# Altium integrated library SparkFun-DiscreteSemi.IntLib: 101 symbols
Pins are listed as number, name and electrical type; pins without a type are passive.

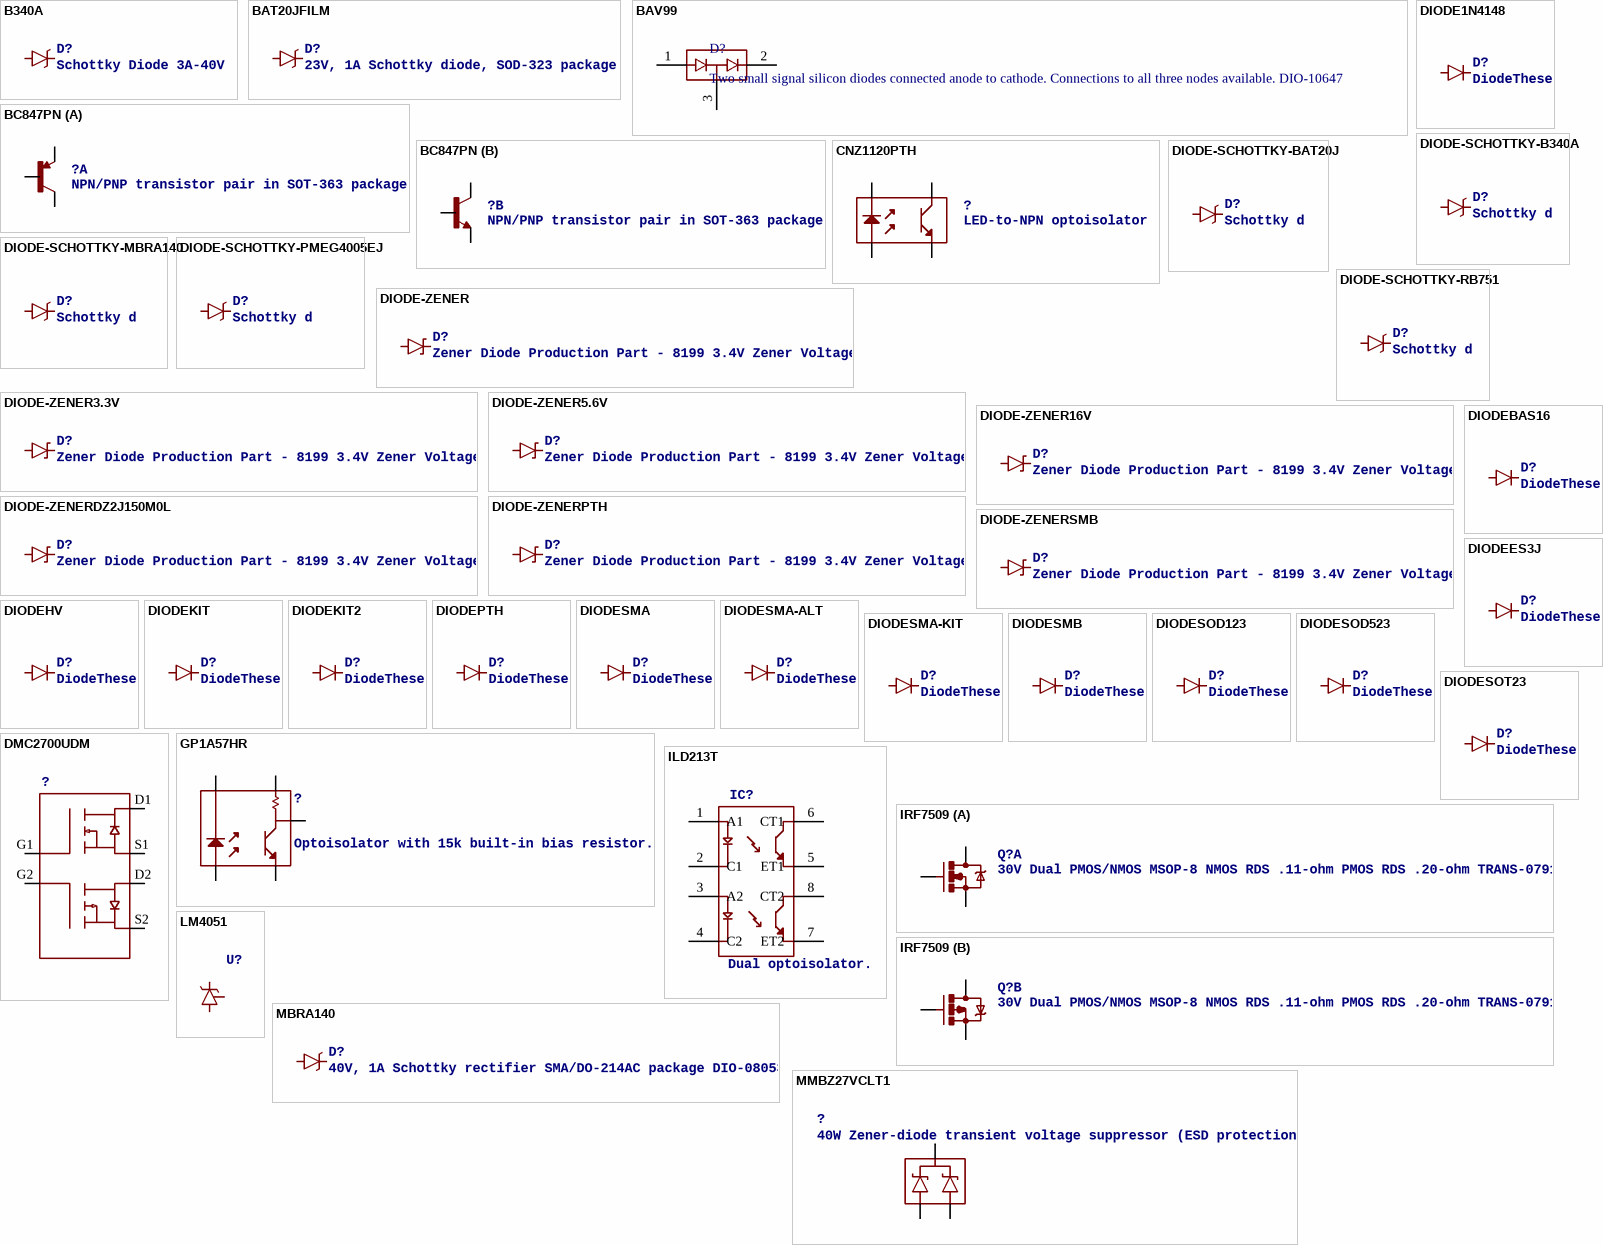
[diagram p0: symbols B340A to MMBZ27VCLT1]

## B340A
designator D?, comment Schottky Diode 3A-40V
PROD_ID: DIO-09886
footprint SMA-DIODE
pins: A, C

## BAT20JFILM
designator D?, comment 23V, 1A Schottky diode, SOD-323 package
PROD_ID: DIO-11623
footprint SOD-323
pins: A, C

## BAV99
designator D?, comment Two small signal silicon diodes connected anode to cathode. Connections to all three nodes available. DIO-10647
PROD_ID: DIO-10647
footprint SOT23-3
pins: 1 A1, 2 C2, 3 COM

## BC847PN
designator ?, comment NPN/PNP transistor pair in SOT-363 package
footprint SOT363
part A pins: 1 E, 2 B, 6 C
part B pins: 3 C, 4 E, 5 B

## CNZ1120PTH
designator ?, comment LED-to-NPN optoisolator
footprint CNZ1120
pins: 1, 2, 3, 4

## DIODE1N4148
designator D?, comment DiodeThese are standard reverse protection diodes and small signal diodes. SMA package can handle up to about 1A. SOD-323 can handle about 200mA. What the SOD-323 package when ordering, there are some mfgs out there that are 5-pin packages.
PROD_ID: DIO-08378
footprint DIODE-1N4148
pins: A, C

## DIODE-SCHOTTKY-B340A
designator D?, comment Schottky diodes in SFE's production catalog   BAT20J 1A 23V 0.62Vf RB751 120mA 40V 0.37Vf PMEG4005EJ 0.5A 40V 0.42Vf MBRA140 1A 40V 0.5Vf B340A  3A 40V SMA
PROD_ID: DIO-09886
footprint SMA-DIODE
pins: A, C

## DIODE-SCHOTTKY-BAT20J
designator D?, comment Schottky diodes in SFE's production catalog   BAT20J 1A 23V 0.62Vf RB751 120mA 40V 0.37Vf PMEG4005EJ 0.5A 40V 0.42Vf MBRA140 1A 40V 0.5Vf B340A  3A 40V SMA
PROD_ID: DIO-11623
footprint SOD-323
pins: A, C

## DIODE-SCHOTTKY-MBRA140
designator D?, comment Schottky diodes in SFE's production catalog   BAT20J 1A 23V 0.62Vf RB751 120mA 40V 0.37Vf PMEG4005EJ 0.5A 40V 0.42Vf MBRA140 1A 40V 0.5Vf B340A  3A 40V SMA
PROD_ID: DIO-08053
footprint SMA-DIODE
pins: A, C

## DIODE-SCHOTTKY-PMEG4005EJ
designator D?, comment Schottky diodes in SFE's production catalog   BAT20J 1A 23V 0.62Vf RB751 120mA 40V 0.37Vf PMEG4005EJ 0.5A 40V 0.42Vf MBRA140 1A 40V 0.5Vf B340A  3A 40V SMA
PROD_ID: DIO-10955
footprint SOD-323
pins: A, C

## DIODE-SCHOTTKY-RB751
designator D?, comment Schottky diodes in SFE's production catalog   BAT20J 1A 23V 0.62Vf RB751 120mA 40V 0.37Vf PMEG4005EJ 0.5A 40V 0.42Vf MBRA140 1A 40V 0.5Vf B340A  3A 40V SMA
PROD_ID: DIO-11018
footprint SOD-523
pins: A, C

## DIODE-ZENER
designator D?, comment Zener Diode Production Part - 8199 3.4V Zener Voltage
PROD-ID: DIO-08199
footprint DIODE-BZT52
pins: A, C

## DIODE-ZENER3.3V
designator D?, comment Zener Diode Production Part - 8199 3.4V Zener Voltage
PROD_ID: DIO-11284
footprint SOD-323
pins: A, C

## DIODE-ZENER5.6V
designator D?, comment Zener Diode Production Part - 8199 3.4V Zener Voltage
PROD_ID: DIO-12442
footprint SOD-323
pins: A, C

## DIODE-ZENER16V
designator D?, comment Zener Diode Production Part - 8199 3.4V Zener Voltage
PROD_ID: DIO-12440
footprint SOD-123
pins: A, C

## DIODE-ZENERDZ2J150M0L
designator D?, comment Zener Diode Production Part - 8199 3.4V Zener Voltage
PROD_ID: DIO-12989
footprint PANASONIC_SMINI2-F5-B
pins: A, C

## DIODE-ZENERPTH
designator D?, comment Zener Diode Production Part - 8199 3.4V Zener Voltage
footprint DIODE-ZENER
pins: P$1 C, P$2 A

## DIODE-ZENERSMB
designator D?, comment Zener Diode Production Part - 8199 3.4V Zener Voltage
footprint SMB-DIODE
pins: A, C

## DIODEBAS16
designator D?, comment DiodeThese are standard reverse protection diodes and small signal diodes. SMA package can handle up to about 1A. SOD-323 can handle about 200mA. What the SOD-323 package when ordering, there are some mfgs out there that are 5-pin packages.
PROD_ID: DIO-09646
footprint SOD-323
pins: A, C

## DIODEES3J
designator D?, comment DiodeThese are standard reverse protection diodes and small signal diodes. SMA package can handle up to about 1A. SOD-323 can handle about 200mA. What the SOD-323 package when ordering, there are some mfgs out there that are 5-pin packages.
PROD_ID: DIO-12441
footprint SMC
pins: A, C

## DIODEHV
designator D?, comment DiodeThese are standard reverse protection diodes and small signal diodes. SMA package can handle up to about 1A. SOD-323 can handle about 200mA. What the SOD-323 package when ordering, there are some mfgs out there that are 5-pin packages.
footprint DIODE-HV
pins: A, C

## DIODEKIT
designator D?, comment DiodeThese are standard reverse protection diodes and small signal diodes. SMA package can handle up to about 1A. SOD-323 can handle about 200mA. What the SOD-323 package when ordering, there are some mfgs out there that are 5-pin packages.
footprint DIODE-1N4148-KIT
pins: A, C

## DIODEKIT2
designator D?, comment DiodeThese are standard reverse protection diodes and small signal diodes. SMA package can handle up to about 1A. SOD-323 can handle about 200mA. What the SOD-323 package when ordering, there are some mfgs out there that are 5-pin packages.
footprint DIODE-1N4001-KIT
pins: A, C

## DIODEPTH
designator D?, comment DiodeThese are standard reverse protection diodes and small signal diodes. SMA package can handle up to about 1A. SOD-323 can handle about 200mA. What the SOD-323 package when ordering, there are some mfgs out there that are 5-pin packages.
footprint DIODE-1N4001
pins: A, C

## DIODESMA
designator D?, comment DiodeThese are standard reverse protection diodes and small signal diodes. SMA package can handle up to about 1A. SOD-323 can handle about 200mA. What the SOD-323 package when ordering, there are some mfgs out there that are 5-pin packages.
footprint SMA-DIODE
pins: A, C

## DIODESMA-ALT
designator D?, comment DiodeThese are standard reverse protection diodes and small signal diodes. SMA package can handle up to about 1A. SOD-323 can handle about 200mA. What the SOD-323 package when ordering, there are some mfgs out there that are 5-pin packages.
footprint SMA-DIODE_ALT
pins: A, C

## DIODESMA-KIT
designator D?, comment DiodeThese are standard reverse protection diodes and small signal diodes. SMA package can handle up to about 1A. SOD-323 can handle about 200mA. What the SOD-323 package when ordering, there are some mfgs out there that are 5-pin packages.
footprint SMA-DIODE-KIT
pins: A, C

## DIODESMB
designator D?, comment DiodeThese are standard reverse protection diodes and small signal diodes. SMA package can handle up to about 1A. SOD-323 can handle about 200mA. What the SOD-323 package when ordering, there are some mfgs out there that are 5-pin packages.
PROD_ID: DIO-09646
footprint SMB-DIODE
pins: A, C

## DIODESOD123
designator D?, comment DiodeThese are standard reverse protection diodes and small signal diodes. SMA package can handle up to about 1A. SOD-323 can handle about 200mA. What the SOD-323 package when ordering, there are some mfgs out there that are 5-pin packages.
footprint SOD-123
pins: A, C

## DIODESOD523
designator D?, comment DiodeThese are standard reverse protection diodes and small signal diodes. SMA package can handle up to about 1A. SOD-323 can handle about 200mA. What the SOD-323 package when ordering, there are some mfgs out there that are 5-pin packages.
footprint SOD523
pins: A, C

## DIODESOT23
designator D?, comment DiodeThese are standard reverse protection diodes and small signal diodes. SMA package can handle up to about 1A. SOD-323 can handle about 200mA. What the SOD-323 package when ordering, there are some mfgs out there that are 5-pin packages.
footprint SOT23-3
pins: 1 A, 3 C

## DMC2700UDM
designator ?
PROD_ID: TRANS-11993
footprint SOT26
pins: D1, D2, G1, G2, S1, S2

## GP1A57HR
designator ?, comment Optoisolator with 15k built-in bias resistor.
footprint GP1A57HR
pins: 1, 2, 3, 4, 5

## ILD213T
designator IC?, comment Dual optoisolator.
footprint SO08
pins: 1 A1, 2 C1, 3 A2, 4 C2, 5 ET1, 6 CT1, 7 ET2, 8 CT2

## IRF7509
designator Q?, comment 30V Dual PMOS/NMOS MSOP-8 NMOS RDS .11-ohm PMOS RDS .20-ohm TRANS-07913
PROD_ID: TRANS-07913
footprint MSOP8
part A pins: 1 S, 2 G, 7 8 D
part B pins: 3 S, 4 G, 5 6 D

## LM4051
designator U?
PROD_ID: IC-13134
footprint SOT23-3
pins: 1 ADJ, 2 C, 3 A

## MBRA140
designator D?, comment 40V, 1A Schottky rectifier SMA/DO-214AC package DIO-08053
PROD_ID: DIO-08053
footprint SMA-DIODE
pins: A, C

## MMBZ27VCLT1
designator ?, comment 40W Zener-diode transient voltage suppressor (ESD protection)
footprint SOT23-3
pins: 1 A1, 2 A2, 3 C

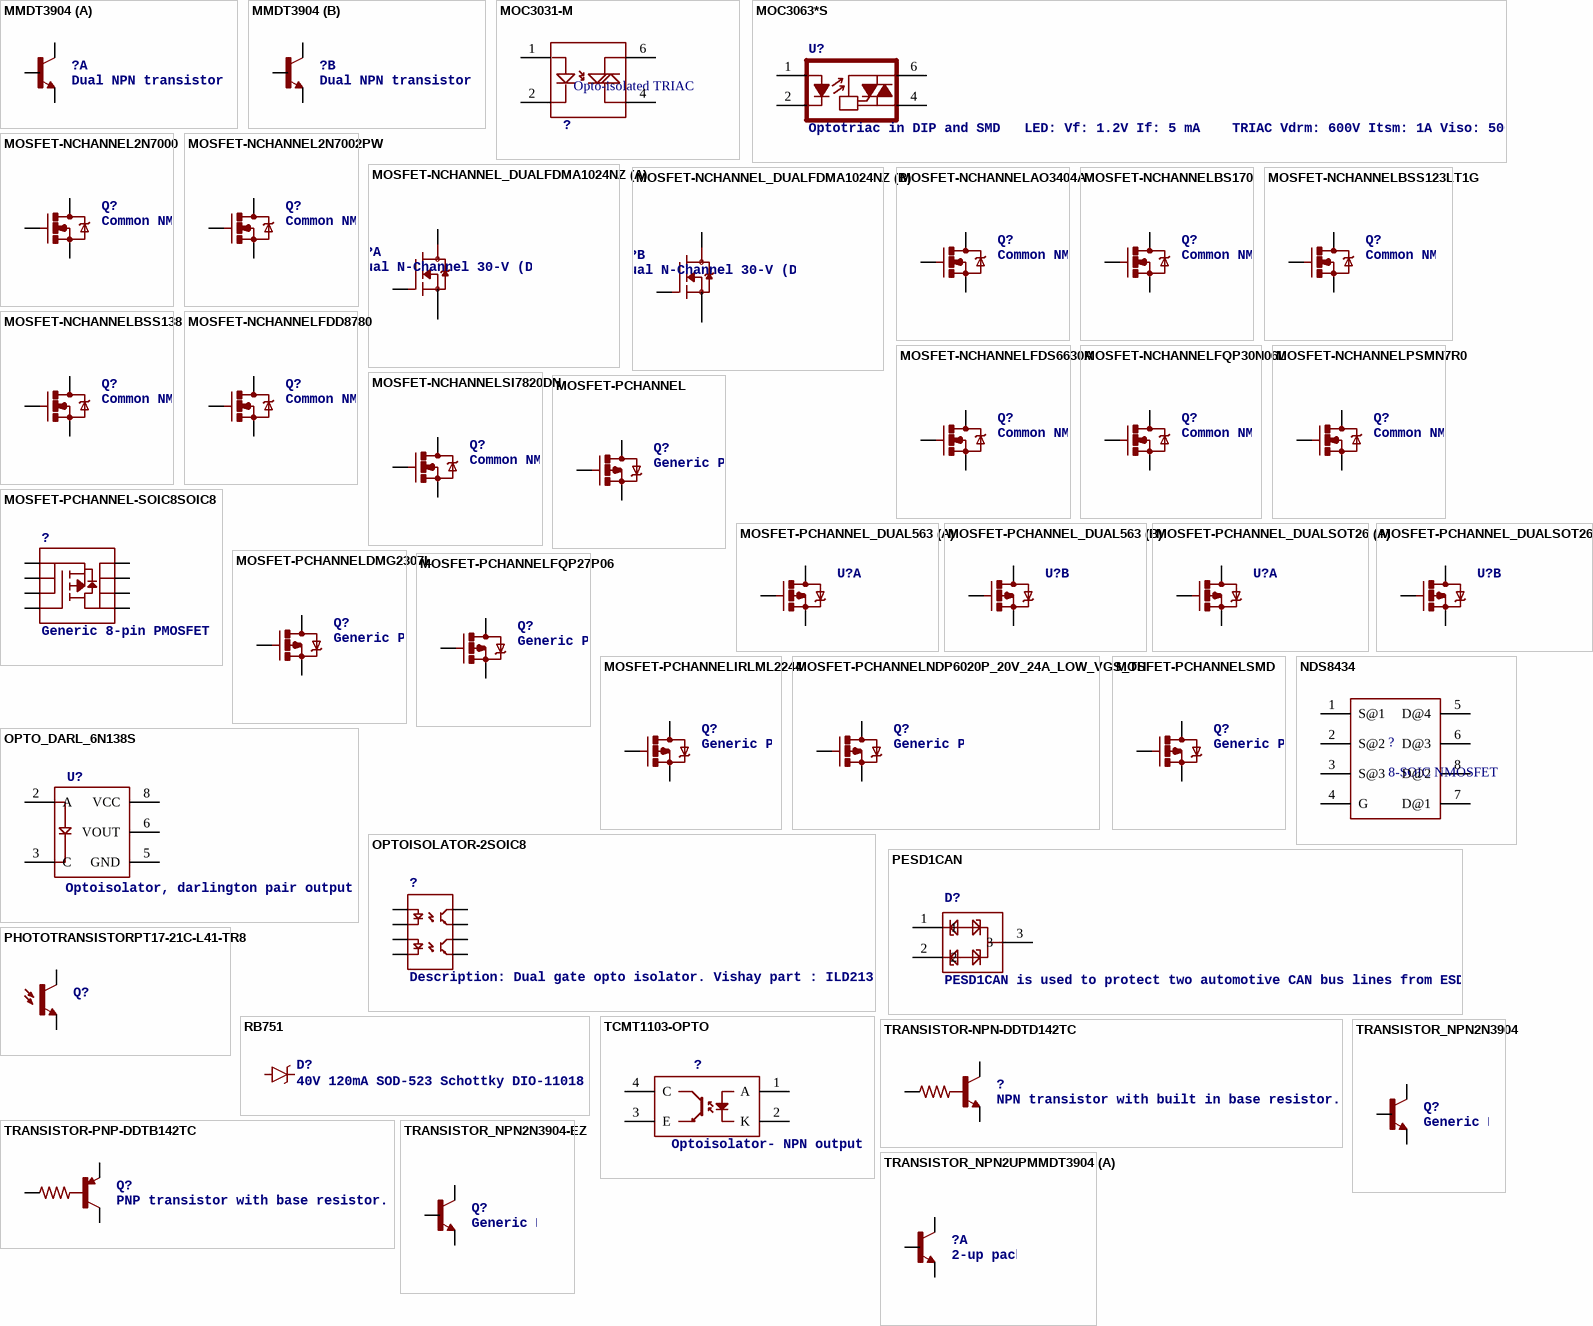
[diagram p1: symbols MMDT3904 to TRANSISTOR_NPN2UPMMDT3904]

## MMDT3904
designator ?, comment Dual NPN transistor
footprint SOT363
part A pins: 3 C, 4 E, 5 B
part B pins: 1 E, 2 B, 6 C

## MOC3031-M
designator ?, comment Opto-isolated TRIAC
footprint DIL06
pins: 1, 2, 4, 6

## MOC3063*S
designator U?, comment Optotriac in DIP and SMD   LED: Vf: 1.2V If: 5 mA    TRIAC Vdrm: 600V Itsm: 1A Viso: 5000V DV/dt: 1500V/us    DIP: MOC3063 SMD: MOC3063S
PROD_ID: IC-10683
footprint DIP8SMD
pins: 1 A, 2 K, 4 T2, 6 T1

## MOSFET-NCHANNEL2N7000
designator Q?, comment Common NMOSFET Parts      MFG P/NStore IDProd ID   FDD8780		TRANS-09984	   SI7820DN		TRANS-11055	   FDS6630A		IC-08089	   2N7002PW		TRANS-11151	   FQP30N06L	  COM-10213	TRANS-10060	   BSS123LT1G		TRANS-08345	   BSS138		TRANS-00830	   BS170			   2N7000
footprint TO-92
pins: 1 S, 2 G, 3 D

## MOSFET-NCHANNEL2N7002PW
designator Q?, comment Common NMOSFET Parts      MFG P/NStore IDProd ID   FDD8780		TRANS-09984	   SI7820DN		TRANS-11055	   FDS6630A		IC-08089	   2N7002PW		TRANS-11151	   FQP30N06L	  COM-10213	TRANS-10060	   BSS123LT1G		TRANS-08345	   BSS138		TRANS-00830	   BS170			   2N7000
PROD_ID: TRANS-11151
footprint SOT323
pins: 1 G, 2 S, 3 D

## MOSFET-NCHANNEL_DUALFDMA1024NZ
designator Q?, comment Dual N-Channel 30-V (D-S) MOSFET FDMA1024NZ TRANS-09516 http://www.vishay.com/docs/71053/71053.pdf
PROD_ID: TRANS-09516
footprint MICROFET_2X2
part A pins: D1 D, D1_2 D1, G1 G, S1 S
part B pins: D2 D, D2_2 D1, G2 G, S2 S

## MOSFET-NCHANNELAO3404A
designator Q?, comment Common NMOSFET Parts      MFG P/NStore IDProd ID   FDD8780		TRANS-09984	   SI7820DN		TRANS-11055	   FDS6630A		IC-08089	   2N7002PW		TRANS-11151	   FQP30N06L	  COM-10213	TRANS-10060	   BSS123LT1G		TRANS-08345	   BSS138		TRANS-00830	   BS170			   2N7000
PROD_ID: TRAN-12988
footprint SOT23-3
pins: 1 G, 2 S, 3 D

## MOSFET-NCHANNELBS170
designator Q?, comment Common NMOSFET Parts      MFG P/NStore IDProd ID   FDD8780		TRANS-09984	   SI7820DN		TRANS-11055	   FDS6630A		IC-08089	   2N7002PW		TRANS-11151	   FQP30N06L	  COM-10213	TRANS-10060	   BSS123LT1G		TRANS-08345	   BSS138		TRANS-00830	   BS170			   2N7000
footprint TO-92
pins: 1 D, 2 G, 3 S

## MOSFET-NCHANNELBSS123LT1G
designator Q?, comment Common NMOSFET Parts      MFG P/NStore IDProd ID   FDD8780		TRANS-09984	   SI7820DN		TRANS-11055	   FDS6630A		IC-08089	   2N7002PW		TRANS-11151	   FQP30N06L	  COM-10213	TRANS-10060	   BSS123LT1G		TRANS-08345	   BSS138		TRANS-00830	   BS170			   2N7000
PROD_ID: TRANS-08345
footprint SOT23-3
pins: 1 G, 2 S, 3 D

## MOSFET-NCHANNELBSS138
designator Q?, comment Common NMOSFET Parts      MFG P/NStore IDProd ID   FDD8780		TRANS-09984	   SI7820DN		TRANS-11055	   FDS6630A		IC-08089	   2N7002PW		TRANS-11151	   FQP30N06L	  COM-10213	TRANS-10060	   BSS123LT1G		TRANS-08345	   BSS138		TRANS-00830	   BS170			   2N7000
PROD_ID: TRANS-00830
footprint SOT23-3
pins: 1 G, 2 S, 3 D

## MOSFET-NCHANNELFDD8780
designator Q?, comment Common NMOSFET Parts      MFG P/NStore IDProd ID   FDD8780		TRANS-09984	   SI7820DN		TRANS-11055	   FDS6630A		IC-08089	   2N7002PW		TRANS-11151	   FQP30N06L	  COM-10213	TRANS-10060	   BSS123LT1G		TRANS-08345	   BSS138		TRANS-00830	   BS170			   2N7000
PROD_ID: TRANS-09984
footprint DPAK
pins: 1 G, 3 S, 4 D

## MOSFET-NCHANNELFDS6630A
designator Q?, comment Common NMOSFET Parts      MFG P/NStore IDProd ID   FDD8780		TRANS-09984	   SI7820DN		TRANS-11055	   FDS6630A		IC-08089	   2N7002PW		TRANS-11151	   FQP30N06L	  COM-10213	TRANS-10060	   BSS123LT1G		TRANS-08345	   BSS138		TRANS-00830	   BS170			   2N7000
PROD_ID: IC-08089
footprint SO08
pins: 1 2 3 S, 4 G, 5 6 7 8 D

## MOSFET-NCHANNELFQP30N06L
designator Q?, comment Common NMOSFET Parts      MFG P/NStore IDProd ID   FDD8780		TRANS-09984	   SI7820DN		TRANS-11055	   FDS6630A		IC-08089	   2N7002PW		TRANS-11151	   FQP30N06L	  COM-10213	TRANS-10060	   BSS123LT1G		TRANS-08345	   BSS138		TRANS-00830	   BS170			   2N7000
PROD_ID: TRANS-10060
footprint TO220V
pins: 1 G, 2 D, 3 S

## MOSFET-NCHANNELPSMN7R0
designator Q?, comment Common NMOSFET Parts      MFG P/NStore IDProd ID   FDD8780		TRANS-09984	   SI7820DN		TRANS-11055	   FDS6630A		IC-08089	   2N7002PW		TRANS-11151	   FQP30N06L	  COM-10213	TRANS-10060	   BSS123LT1G		TRANS-08345	   BSS138		TRANS-00830	   BS170			   2N7000
PROD_ID: TRANS-12437
footprint TO-263/D2PAK
pins: 1 G, 2 D, 3 S

## MOSFET-NCHANNELSI7820DN
designator Q?, comment Common NMOSFET Parts      MFG P/NStore IDProd ID   FDD8780		TRANS-09984	   SI7820DN		TRANS-11055	   FDS6630A		IC-08089	   2N7002PW		TRANS-11151	   FQP30N06L	  COM-10213	TRANS-10060	   BSS123LT1G		TRANS-08345	   BSS138		TRANS-00830	   BS170			   2N7000
PROD_ID: TRANS-11055
footprint POWERPAK1212-8
pins: D1 D2 D3 D4 DPAD D, G, S1 S2 S3 S

## MOSFET-PCHANNEL
designator Q?, comment Generic PMOSFET    IRLML2244 - TRANS-11153 (SOT-23 -20V -4.3A) (1.Gate 2.Source 3.Drain)     FQP27P06 - COM-10349(TO-220 -60V -27A) (1.Gate 2.Source 3.Drain)
PROD_ID: TRANS-08285
footprint SOT23-3
pins: 1 G, 2 S, 3 D

## MOSFET-PCHANNEL-SOIC8SOIC8
designator ?, comment Generic 8-pin PMOSFET
footprint SO08
pins: 1 S@1, 2 S@2, 3 S@3, 4 G, 5 D@1, 6 D@2, 7 D@3, 8 D@4

## MOSFET-PCHANNEL_DUAL563
designator U?
footprint SOT563
part A pins: D1 D, G1 G, S1 S
part B pins: D2 D, G2 G, S2 S

## MOSFET-PCHANNEL_DUALSOT26
designator U?
PROD_ID: TRAN-12444
footprint SOT26
part A pins: D1 D, G1 G, S1 S
part B pins: D2 D, G2 G, S2 S

## MOSFET-PCHANNELDMG2307L
designator Q?, comment Generic PMOSFET    IRLML2244 - TRANS-11153 (SOT-23 -20V -4.3A) (1.Gate 2.Source 3.Drain)     FQP27P06 - COM-10349(TO-220 -60V -27A) (1.Gate 2.Source 3.Drain)
PROD_ID: TRANS-11308
footprint SOT23-3
pins: 1 G, 2 S, 3 D

## MOSFET-PCHANNELFQP27P06
designator Q?, comment Generic PMOSFET    IRLML2244 - TRANS-11153 (SOT-23 -20V -4.3A) (1.Gate 2.Source 3.Drain)     FQP27P06 - COM-10349(TO-220 -60V -27A) (1.Gate 2.Source 3.Drain)
footprint TO220V
pins: 1 G, 2 D, 3 S

## MOSFET-PCHANNELIRLML2244
designator Q?, comment Generic PMOSFET    IRLML2244 - TRANS-11153 (SOT-23 -20V -4.3A) (1.Gate 2.Source 3.Drain)     FQP27P06 - COM-10349(TO-220 -60V -27A) (1.Gate 2.Source 3.Drain)
PROD_ID: TRANS-11153
footprint SOT23-3
pins: 1 G, 2 S, 3 D

## MOSFET-PCHANNELNDP6020P_20V_24A_LOW_VGS_TH
designator Q?, comment Generic PMOSFET    IRLML2244 - TRANS-11153 (SOT-23 -20V -4.3A) (1.Gate 2.Source 3.Drain)     FQP27P06 - COM-10349(TO-220 -60V -27A) (1.Gate 2.Source 3.Drain)
PROD_ID: TRANS-13060
footprint TO220V
pins: 1 G, 2 D, 3 S

## MOSFET-PCHANNELSMD
designator Q?, comment Generic PMOSFET    IRLML2244 - TRANS-11153 (SOT-23 -20V -4.3A) (1.Gate 2.Source 3.Drain)     FQP27P06 - COM-10349(TO-220 -60V -27A) (1.Gate 2.Source 3.Drain)
footprint SOT23-3
pins: 1 G, 2 S, 3 D

## NDS8434
designator ?, comment 8-SOIC NMOSFET
footprint SO08
pins: 1 S@1, 2 S@2, 3 S@3, 4 G, 5 D@4, 6 D@3, 7 D@1, 8 D@2

## OPTO_DARL_6N138S
designator U?, comment Optoisolator, darlington pair output
PROD_ID: IC-09482
footprint 8-SMD
pins: 2 A, 3 C, 5 GND, 6 VOUT, 8 VCC

## OPTOISOLATOR-2SOIC8
designator ?, comment Description: Dual gate opto isolator. Vishay part : ILD213T
PROD_ID: IC-09076
footprint SO08-2
pins: 1 A1, 2 C1, 3 A2, 4 C2, 5 EM2, 6 CL2, 7 EM1, 8 CL1

## PESD1CAN
designator D?, comment PESD1CAN is used to protect two automotive CAN bus lines from ESD.
PROD_ID: DIO-12501
footprint SOT23-3
pins: 1, 2, 3

## PHOTOTRANSISTORPT17-21C-L41-TR8
designator Q?
PROD_ID: TRANS-12141
footprint PT17-21C-L41-TR8
pins: C, E

## RB751
designator D?, comment 40V 120mA SOD-523 Schottky DIO-11018
PROD_ID: DIO-11018
footprint SOD-523
pins: A, C

## TCMT1103-OPTO
designator ?, comment Optoisolator- NPN output
footprint SSOP-4
pins: 1 A, 2 K, 3 E, 4 C

## TRANSISTOR-NPN-DDTD142TC
designator ?, comment NPN transistor with built in base resistor.
PROD_ID: TRANS-11480
footprint SOT23-3
pins: 1 B, 2 E, 3 C

## TRANSISTOR-PNP-DDTB142TC
designator Q?, comment PNP transistor with base resistor.
PROD_ID: TRANS-11479
footprint SOT23-3
pins: 1 B, 2 E, 3 C

## TRANSISTOR_NPN2N3904
designator Q?, comment Generic NPN BJT   MMBT2222A - TRANS-08049 (SOT-23, 1A 40V) MPSA42 - TRANS-09116 (SOT-23, 500mA 300V) MMBT5088LT1G - TRANS-11160 (SOT-23, 50 mA 30V)          BC547 -     COM-08928    (TO-92 45V 100mA) (1.Collector 2.Base 3.Emitter)             2N3904 -     COM-00521    (TO-92 40V 200mA) (1.Emitter 2.Base 3.Collector)             P2N2222A -     COM-12852    (TO-92 40V 600mA) (1.Collector 2.Base 3.Emitter)
PROD_ID: TRANS-08447
footprint TO-92
pins: 1 E, 2 B, 3 C

## TRANSISTOR_NPN2N3904-EZ
designator Q?, comment Generic NPN BJT   MMBT2222A - TRANS-08049 (SOT-23, 1A 40V) MPSA42 - TRANS-09116 (SOT-23, 500mA 300V) MMBT5088LT1G - TRANS-11160 (SOT-23, 50 mA 30V)          BC547 -     COM-08928    (TO-92 45V 100mA) (1.Collector 2.Base 3.Emitter)             2N3904 -     COM-00521    (TO-92 40V 200mA) (1.Emitter 2.Base 3.Collector)             P2N2222A -     COM-12852    (TO-92 40V 600mA) (1.Collector 2.Base 3.Emitter)
PROD_ID: TRANS-08447
footprint TO-92-EZ
pins: 1 E, 2 B, 3 C

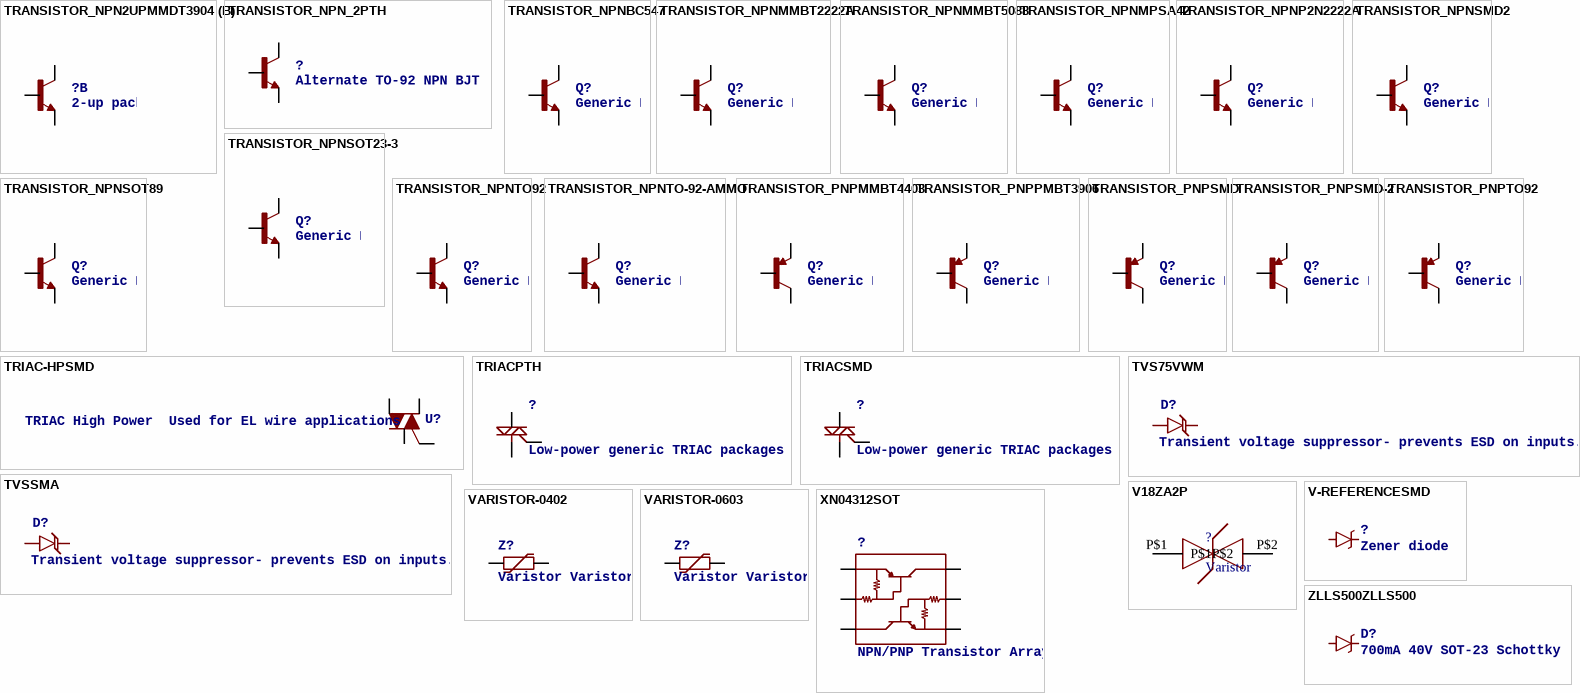
[diagram p2: symbols TRANSISTOR_NPN2UPMMDT3904 to ZLLS500ZLLS500]

## TRANSISTOR_NPN2UPMMDT3904
designator ?, comment 2-up package of NPN transistors    MMDT3904- TRANS-09373 (SOT-363, 200mA 40V)
PROD_ID: TRANS-09373
footprint SOT363
part A pins: 1 E, 2 B, 6 C
part B pins: 3 C, 4 E, 5 B

## TRANSISTOR_NPN_2PTH
designator ?, comment Alternate TO-92 NPN BJT
footprint TO-92
pins: 1 C, 2 B, 3 E

## TRANSISTOR_NPNBC547
designator Q?, comment Generic NPN BJT   MMBT2222A - TRANS-08049 (SOT-23, 1A 40V) MPSA42 - TRANS-09116 (SOT-23, 500mA 300V) MMBT5088LT1G - TRANS-11160 (SOT-23, 50 mA 30V)          BC547 -     COM-08928    (TO-92 45V 100mA) (1.Collector 2.Base 3.Emitter)             2N3904 -     COM-00521    (TO-92 40V 200mA) (1.Emitter 2.Base 3.Collector)             P2N2222A -     COM-12852    (TO-92 40V 600mA) (1.Collector 2.Base 3.Emitter)
footprint TO-92-AMMO
pins: 1 C, 2 B, 3 E

## TRANSISTOR_NPNMMBT2222A
designator Q?, comment Generic NPN BJT   MMBT2222A - TRANS-08049 (SOT-23, 1A 40V) MPSA42 - TRANS-09116 (SOT-23, 500mA 300V) MMBT5088LT1G - TRANS-11160 (SOT-23, 50 mA 30V)          BC547 -     COM-08928    (TO-92 45V 100mA) (1.Collector 2.Base 3.Emitter)             2N3904 -     COM-00521    (TO-92 40V 200mA) (1.Emitter 2.Base 3.Collector)             P2N2222A -     COM-12852    (TO-92 40V 600mA) (1.Collector 2.Base 3.Emitter)
PROD_ID: TRANS-08049
footprint SOT23-3
pins: 1 B, 2 E, 3 C

## TRANSISTOR_NPNMMBT5088
designator Q?, comment Generic NPN BJT   MMBT2222A - TRANS-08049 (SOT-23, 1A 40V) MPSA42 - TRANS-09116 (SOT-23, 500mA 300V) MMBT5088LT1G - TRANS-11160 (SOT-23, 50 mA 30V)          BC547 -     COM-08928    (TO-92 45V 100mA) (1.Collector 2.Base 3.Emitter)             2N3904 -     COM-00521    (TO-92 40V 200mA) (1.Emitter 2.Base 3.Collector)             P2N2222A -     COM-12852    (TO-92 40V 600mA) (1.Collector 2.Base 3.Emitter)
PROD_ID: TRANS-11160
footprint SOT23-3
pins: 1 B, 2 E, 3 C

## TRANSISTOR_NPNMPSA42
designator Q?, comment Generic NPN BJT   MMBT2222A - TRANS-08049 (SOT-23, 1A 40V) MPSA42 - TRANS-09116 (SOT-23, 500mA 300V) MMBT5088LT1G - TRANS-11160 (SOT-23, 50 mA 30V)          BC547 -     COM-08928    (TO-92 45V 100mA) (1.Collector 2.Base 3.Emitter)             2N3904 -     COM-00521    (TO-92 40V 200mA) (1.Emitter 2.Base 3.Collector)             P2N2222A -     COM-12852    (TO-92 40V 600mA) (1.Collector 2.Base 3.Emitter)
PROD_ID: TRANS-09116
footprint SOT23-3
pins: 1 B, 2 E, 3 C

## TRANSISTOR_NPNP2N2222A
designator Q?, comment Generic NPN BJT   MMBT2222A - TRANS-08049 (SOT-23, 1A 40V) MPSA42 - TRANS-09116 (SOT-23, 500mA 300V) MMBT5088LT1G - TRANS-11160 (SOT-23, 50 mA 30V)          BC547 -     COM-08928    (TO-92 45V 100mA) (1.Collector 2.Base 3.Emitter)             2N3904 -     COM-00521    (TO-92 40V 200mA) (1.Emitter 2.Base 3.Collector)             P2N2222A -     COM-12852    (TO-92 40V 600mA) (1.Collector 2.Base 3.Emitter)
PROD_ID: TRANS-09536
footprint TO-92
pins: 1 C, 2 B, 3 E

## TRANSISTOR_NPNSMD2
designator Q?, comment Generic NPN BJT   MMBT2222A - TRANS-08049 (SOT-23, 1A 40V) MPSA42 - TRANS-09116 (SOT-23, 500mA 300V) MMBT5088LT1G - TRANS-11160 (SOT-23, 50 mA 30V)          BC547 -     COM-08928    (TO-92 45V 100mA) (1.Collector 2.Base 3.Emitter)             2N3904 -     COM-00521    (TO-92 40V 200mA) (1.Emitter 2.Base 3.Collector)             P2N2222A -     COM-12852    (TO-92 40V 600mA) (1.Collector 2.Base 3.Emitter)
footprint SOT223
pins: 1 B, 2 C, 3 E

## TRANSISTOR_NPNSOT23-3
designator Q?, comment Generic NPN BJT   MMBT2222A - TRANS-08049 (SOT-23, 1A 40V) MPSA42 - TRANS-09116 (SOT-23, 500mA 300V) MMBT5088LT1G - TRANS-11160 (SOT-23, 50 mA 30V)          BC547 -     COM-08928    (TO-92 45V 100mA) (1.Collector 2.Base 3.Emitter)             2N3904 -     COM-00521    (TO-92 40V 200mA) (1.Emitter 2.Base 3.Collector)             P2N2222A -     COM-12852    (TO-92 40V 600mA) (1.Collector 2.Base 3.Emitter)
PROD_ID: TRANS-08049
footprint SOT23-3
pins: 1 B, 2 E, 3 C

## TRANSISTOR_NPNSOT89
designator Q?, comment Generic NPN BJT   MMBT2222A - TRANS-08049 (SOT-23, 1A 40V) MPSA42 - TRANS-09116 (SOT-23, 500mA 300V) MMBT5088LT1G - TRANS-11160 (SOT-23, 50 mA 30V)          BC547 -     COM-08928    (TO-92 45V 100mA) (1.Collector 2.Base 3.Emitter)             2N3904 -     COM-00521    (TO-92 40V 200mA) (1.Emitter 2.Base 3.Collector)             P2N2222A -     COM-12852    (TO-92 40V 600mA) (1.Collector 2.Base 3.Emitter)
footprint SOT89
pins: 1 B, 2 C, 3 E

## TRANSISTOR_NPNTO92
designator Q?, comment Generic NPN BJT   MMBT2222A - TRANS-08049 (SOT-23, 1A 40V) MPSA42 - TRANS-09116 (SOT-23, 500mA 300V) MMBT5088LT1G - TRANS-11160 (SOT-23, 50 mA 30V)          BC547 -     COM-08928    (TO-92 45V 100mA) (1.Collector 2.Base 3.Emitter)             2N3904 -     COM-00521    (TO-92 40V 200mA) (1.Emitter 2.Base 3.Collector)             P2N2222A -     COM-12852    (TO-92 40V 600mA) (1.Collector 2.Base 3.Emitter)
footprint TO-92
pins: 1 E, 2 B, 3 C

## TRANSISTOR_NPNTO-92-AMMO
designator Q?, comment Generic NPN BJT   MMBT2222A - TRANS-08049 (SOT-23, 1A 40V) MPSA42 - TRANS-09116 (SOT-23, 500mA 300V) MMBT5088LT1G - TRANS-11160 (SOT-23, 50 mA 30V)          BC547 -     COM-08928    (TO-92 45V 100mA) (1.Collector 2.Base 3.Emitter)             2N3904 -     COM-00521    (TO-92 40V 200mA) (1.Emitter 2.Base 3.Collector)             P2N2222A -     COM-12852    (TO-92 40V 600mA) (1.Collector 2.Base 3.Emitter)
footprint TO-92-AMMO
pins: 1 E, 2 B, 3 C

## TRANSISTOR_PNPMMBT4403
designator Q?, comment Generic PNP BJT      Double check pinouts against datasheets- not all devices are the same! MMBT3906 - 40V 200mA SOT-23 (TRANS-08052) MMBT4403 - 40V 600mA SOT-23 (TRANS-09245)
PROD_ID: TRANS-09245
footprint SOT23-3
pins: 1 B, 2 E, 3 C

## TRANSISTOR_PNPPMBT3906
designator Q?, comment Generic PNP BJT      Double check pinouts against datasheets- not all devices are the same! MMBT3906 - 40V 200mA SOT-23 (TRANS-08052) MMBT4403 - 40V 600mA SOT-23 (TRANS-09245)
PROD_ID: TRANS-08052
footprint SOT23-3
pins: 1 B, 2 E, 3 C

## TRANSISTOR_PNPSMD
designator Q?, comment Generic PNP BJT      Double check pinouts against datasheets- not all devices are the same! MMBT3906 - 40V 200mA SOT-23 (TRANS-08052) MMBT4403 - 40V 600mA SOT-23 (TRANS-09245)
footprint SOT23-3
pins: 1 B, 2 E, 3 C

## TRANSISTOR_PNPSMD-2
designator Q?, comment Generic PNP BJT      Double check pinouts against datasheets- not all devices are the same! MMBT3906 - 40V 200mA SOT-23 (TRANS-08052) MMBT4403 - 40V 600mA SOT-23 (TRANS-09245)
footprint SOT89
pins: 1 B, 2 C, 3 E

## TRANSISTOR_PNPTO92
designator Q?, comment Generic PNP BJT      Double check pinouts against datasheets- not all devices are the same! MMBT3906 - 40V 200mA SOT-23 (TRANS-08052) MMBT4403 - 40V 600mA SOT-23 (TRANS-09245)
footprint TO-92
pins: 1 E, 2 B, 3 C

## TRIAC-HPSMD
designator U?, comment TRIAC High Power  Used for EL wire applications
PROD_ID: VREG-09120
footprint SOT223
pins: 1 T1, 2 T2@1, 3 G, 4 T2@2

## TRIACPTH
designator ?, comment Low-power generic TRIAC packages
footprint TO-92
pins: 1 M1, 2 G, 3 M2

## TRIACSMD
designator ?, comment Low-power generic TRIAC packages
footprint SOT223
pins: 1 M1, 2 M2, 3 G

## TVS75VWM
designator D?, comment Transient voltage suppressor- prevents ESD on inputs.
PROD_ID: DIO-12443
footprint SMC
pins: A, C

## TVSSMA
designator D?, comment Transient voltage suppressor- prevents ESD on inputs.
footprint SMA-DIODE
pins: A, C

## V18ZA2P
designator ?, comment Varistor
footprint V18ZA2P
pins: P$1, P$2

## V-REFERENCESMD
designator ?, comment Zener diode
footprint SOT23-3
pins: 1 C, 2 A

## VARISTOR-0402
designator Z?, comment Varistor Varistor (Variable resistor) is a nonlinear resistive element of the voltage dependence that resistance changes with applied voltage. Varistor is equivalent with Zener diode of two series connection.
footprint 0402-RES
pins: 1, 2

## VARISTOR-0603
designator Z?, comment Varistor Varistor (Variable resistor) is a nonlinear resistive element of the voltage dependence that resistance changes with applied voltage. Varistor is equivalent with Zener diode of two series connection.
footprint 0603-RES
pins: 1, 2

## XN04312SOT
designator ?, comment NPN/PNP Transistor ArrayHandy dandy transistor array for level shifting and inverting signals. Spark Fun Electronics SKU : COM-00588
PROD_ID: TRANS-00816
footprint SOT23-6
pins: 1 C1, 2 B2, 3 E2, 4 C2, 5 B1, 6 E1

## ZLLS500ZLLS500
designator D?, comment 700mA 40V SOT-23 Schottky
PROD_ID: DIO-08411
footprint SOT23-3
pins: 1 A, 3 C